# Altium schematic symbol library SST_Schlib.SchLib: 17 symbols
Pins are listed as number, name and electrical type; pins without a type are passive.

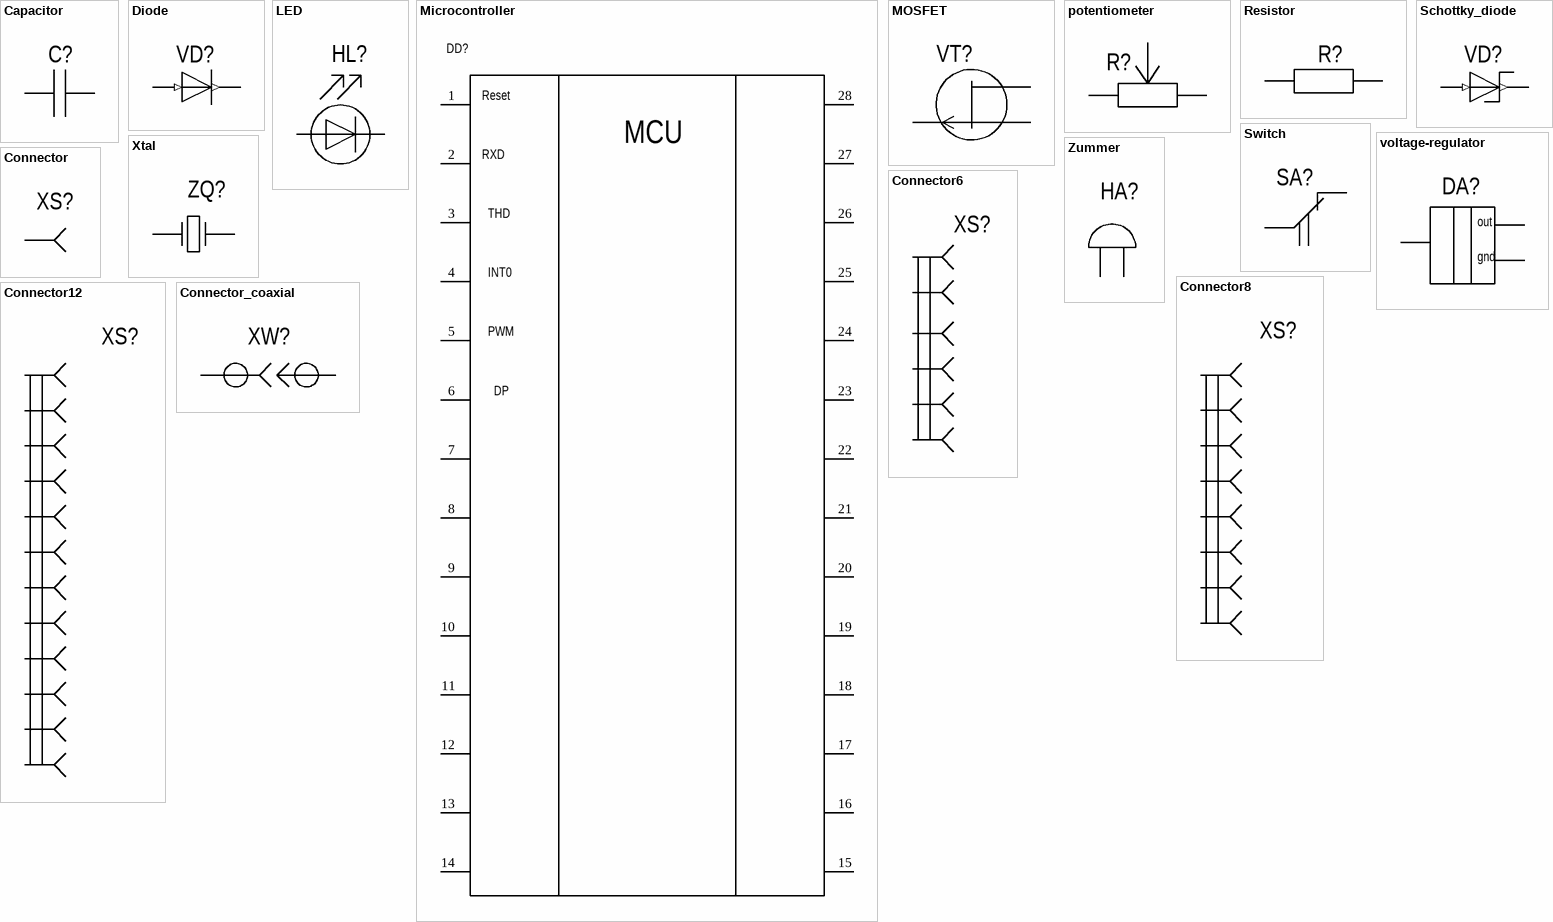
[diagram p0: symbols Capacitor to Сonnector_coaxial]

## Capacitor
designator C?  (value not drawn)
pins: 1, 2, 17

## Diode
designator VD?  (value not drawn)
pins: 1 (in), 2 (out)

## LED
designator HL?  (value not drawn)
pins: 1, 2

## Microcontroller
designator DD?
pins: 1, 2, 3, 4, 5, 6, 7, 8, 9, 10, 11, 12, 13, 14, 15, 16, 17, 18, 19, 20, 21, 22, 23, 24, 25, 26, 27, 28
text: Reset; MCU; RXD; THD; INT0; PWM; DP

## MOSFET
designator VT?  (value not drawn)
Полевой с пэ каналом
pins: 1, 2 (oc), 3 (oe)

## potentiometer
designator R?  (value not drawn)
pins: 1 *, 2, 3

## Resistor
designator R?  (value not drawn)
pins: 1 *, 2

## Schottky_diode
designator VD?  (value not drawn)
pins: 1 (in), 2 (out)

## Switch
designator SA?  (value not drawn)
Переключатели ползунковые 2П1Н
pins: 1, 2

## voltage-regulator
designator DA?  (value not drawn)
pins: 1, 2, 3
text: out; IN; gnd

## Xtal
designator ZQ?  (value not drawn)
Резонатор кварцевый
pins: 1, 2

## Zummer
designator HA?  (value not drawn)
pins: 1, 2

## Сonnector
designator XS?  (value not drawn)
pins: 1

## Сonnector6
designator XS?  (value not drawn)
pins: 1, 2, 3, 4, 5, 6

## Сonnector8
designator XS?  (value not drawn)
pins: 1, 2, 3, 4, 5, 6, 7, 8

## Сonnector12
designator XS?  (value not drawn)
pins: 1, 1, 2, 2, 3, 3, 4, 5, 5, 6, 6, 7

## Сonnector_coaxial
designator XW?  (value not drawn)
pins: 1, 2